# Altium footprint library tilepcb.PCBLIB: 58 footprints (part 4 of 4)
Each footprint in its own frame and in the unit in brackets; x right, y up, seen from the top. Pads: shape width x height; smd on the part's side, far side on the other; paste and mask are expansions set on the pad; w line width, h text height; cw(c..) or ccw(c..) is an arc to the next point about the centre after c.
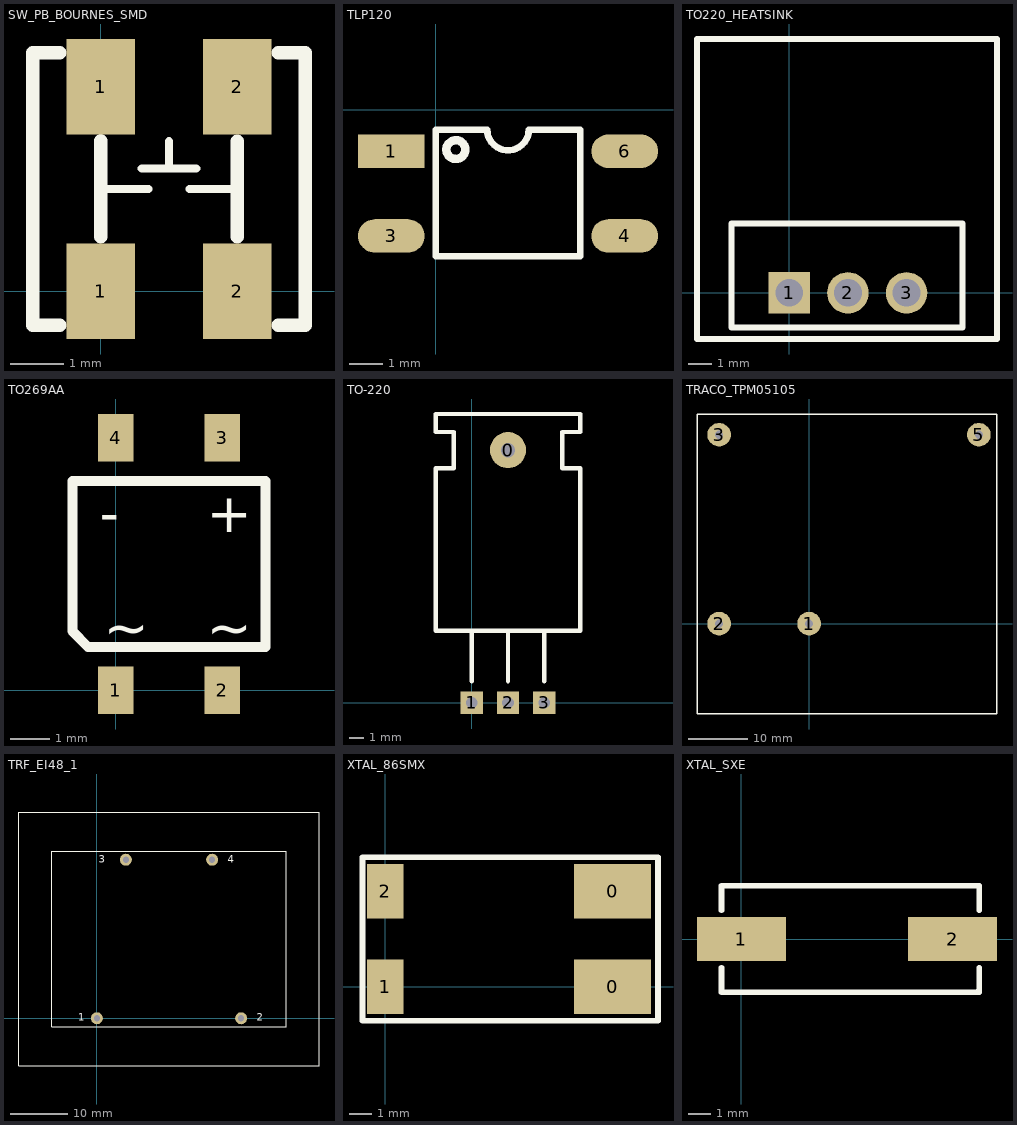
[diagram p3: the footprints below, top view; thin cyan lines are the x and y axes]

## SW_PB_BOURNES_SMD [mil]
pads (4):
  rect 50x70 smd: 1(0,0) 1(0,150) 2(100,0) 2(100,150)
TopOverlay:
  lines w6: 0,75 35,75 ; 30,90 70,90 ; 50,90 50,110 ; 65,75 100,75
  lines w10: -30,-25 -50,-25 -50,175 -30,175 ; 0,40 0,110.24 ; 100,40 100,110 ; 130,-25 150,-25 150,175 130,175

## TLP120 [mm]
pads (4):
  rect 2x1 smd: 1(-1.335,-1.25)
  oval 2x1 smd: 3(-1.335,-3.79) 4(5.665,-3.79) 6(5.665,-1.25)
TopOverlay:
  circle w0.254: c0.6,-1.2 r0.283
  lines w0.2: 0,-4.4 4.33,-4.4 4.33,-0.6 2.79,-0.6 cw(c2.165,-0.6) 1.54,-0.6 0,-0.6 0,-4.4

## TO220_HEATSINK [mm]
pads (3):
  rect 1.8x1.8 hole 1.2: 1(0,0)
  round 1.8 hole 1.2: 2(2.54,0) 3(5.08,0)
TopOverlay:
  lines w0.254: -4,-2 9,-2 9,11 -4,11 -4,-2 ; -2.5,-1.5 -2.5,3 7.5,3 7.5,-1.5 -2.5,-1.5

## TO269AA [mm]
pads (4):
  rect 0.9x1.2 smd: 1(0,0) 2(2.7,0) 3(2.7,6.4) 4(0,6.4)
TopOverlay:
  lines w0.254: -1.1,1.5 -1.1,5.3 3.8,5.3 3.8,1.1 -0.6,1.1 -0.7,1.1 -1.1,1.5
  text "~" at -0.3,1.1 h1
  text "~" at 2.3,1.1 h1
  text "+" at 2.3,4 h1
  text "-" at -0.4,4 h1

## TO-220 [mil]
pads (4):
  round 100 hole 40: 0(100,700)
  rect 62x62 hole 32: 1(0,0) 2(100,0) 3(200,0)
TopOverlay:
  lines w12: 0,60 0,200 ; 100,60 100,200 ; 200,60 200,200 ; -100,200 300,200 300,650 250,650 250,750 300,750 300,800 -100,800 -100,750 -50,750 -50,650 -100,650 -100,200

## TRACO_TPM05105 [mm]
pads (4):
  round 4 hole 1.4: 1(0,0) 2(-15.24,0) 3(-15.24,32) 5(28.76,32)
TopOverlay:
  lines w0.254: -18.977,-15.298 31.823,-15.298 31.823,35.502 -18.977,35.502 -18.977,-15.298

## TRANSFORMER [mil]

## TRF_EI48_1 [mil]
pads (4):
  round 82 hole 42: Pri+(0,0) Pri-(985,0) Sec+(197.5,1083.33) Sec-(787.5,1083.33)
TopOverlay:
  lines w8: -532.5,-325 -532.5,1408.33 1517.5,1408.33 1517.5,-325 -532.5,-325 ; -307.5,-58.33 1292.5,-58.33 1292.5,1141.67 -307.5,1141.67 -307.5,-58.33
  text "1" at -127.5,-18.33 h50
  text "2" at 1092.5,-18.33 h50
  text "4" at 892.5,1061.67 h50
  text "3" at 12.5,1061.67 h50

## XTAL_86SMX [mm]
pads (4):
  rect 3.4x2.4 smd: 0(10,0) 0(10,4.2)
  rect 1.6x2.4 smd: 1(0,0) 2(0,4.2)
TopOverlay:
  lines w0.254: -1,-1.5 -1,5.7 12,5.7 12,-1.5 -1,-1.5

## XTAL_SXE [mm]
pads (2):
  rect 4x2 smd: 1(0,0) 2(9.5,0)
TopOverlay:
  lines w0.254: -0.9,-1.3 -0.9,-2.4 10.6,-2.4 10.7,-2.3 ; -0.9,1.3 -0.9,2.4 10.7,2.4 10.7,1.3 ; 10.7,-2.4 10.7,-1.3